# EAGLE library part MX25L3233F (library chips)
FLASH - NOR Memory IC 32Mb (4M x 8) SPI - Quad I/O 80MHz 8-SOP
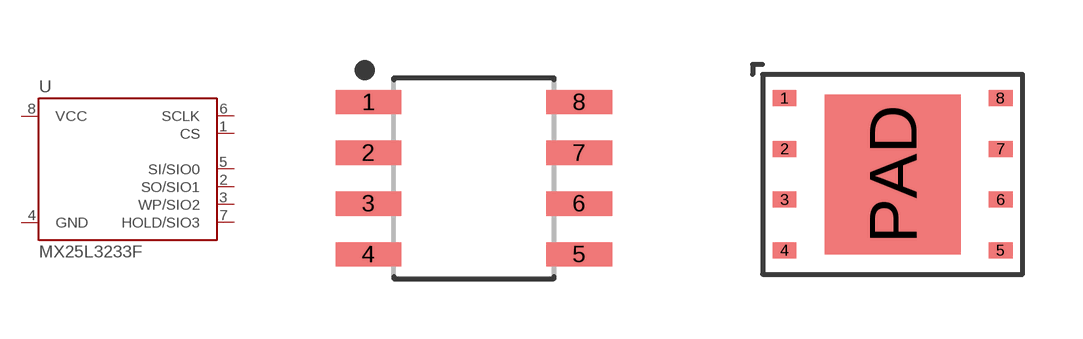
[diagram p112: symbol with the pads of SOIC127P600X175-8N; footprints SOIC127P600X175-8N, 8-WSON_6X5]

Designator prefix U

## MX25L3233FM2I-08G (DIGIKEY: MX25L3233FM2I-08G-ND; MANUFACTURER: Macronix; MPN: MX25L3233FM2I-08G)  [SOIC127P600X175-8N]
1  CS
2  SO/SIO1
3  WP/SIO2
4  GND
5  SI/SIO0
6  SCLK
7  HOLD/SIO3
8  VCC

## MX25L3233FZNI-08G (DIGIKEY: MX25L3233FZNI-08G-ND; MANUFACTURER: Macronix; MPN: MX25L3233FZNI-08G)  [8-WSON_6X5]
1  CS
2  SO/SIO1
3  WP/SIO2
4  GND
5  SI/SIO0
6  SCLK
7  HOLD/SIO3
8  VCC
PAD  GND

## MX25L3233FZBI-08Q (DIGIKEY: 1092-MX25L3233FZBI-08QCT-ND; MANUFACTURER: Macronix; MPN: MX25L3233FZBI-08Q)  [8-USON_4X3]
1  CS
2  SO/SIO1
3  WP/SIO2
4  GND
5  SI/SIO0
6  SCLK
7  HOLD/SIO3
8  VCC
PAD1  GND
PAD2  GND

## Footprint SOIC127P600X175-8N (pad centres in mm)
8-SOIC, 1.27 mm pitch, 6.00 mm span, 4.90 X 3.90 X 1.75 mm body 8-pin SOIC package with 1.27 mm pitch, 6.00 mm span with body size 4.90 X 3.90 X 1.75 mm
smd 1.645 x 0.607: 1 -2.635,1.905; 2 -2.635,0.635; 3 -2.635,-0.635; 4 -2.635,-1.905; 5 2.635,-1.905; 6 2.635,-0.635; 7 2.635,0.635; 8 2.635,1.905

## Footprint 8-WSON_6X5 (pad centres in mm)
smd 0.6 x 0.4: 1 -2.7,1.905; 2 -2.7,0.635; 3 -2.7,-0.635; 4 -2.7,-1.905; 5 2.7,-1.905; 6 2.7,-0.635; 7 2.7,0.635; 8 2.7,1.905
smd 3.4 x 4: PAD 0,0

## Footprint 8-USON_4X3 (pad centres in mm)
smd 0.6 x 0.3: 1 -1.2,1.2; 2 -1.2,0.4; 3 -1.2,-0.4; 4 -1.2,-1.2; 5 1.2,-1.2; 6 1.2,-0.4; 7 1.2,0.4; 8 1.2,1.2
smd 0.2 x 0.8: PAD1 0,1.2; PAD2 0,-1.2